# EAGLE library part COMPANDER (library integrated circuits)
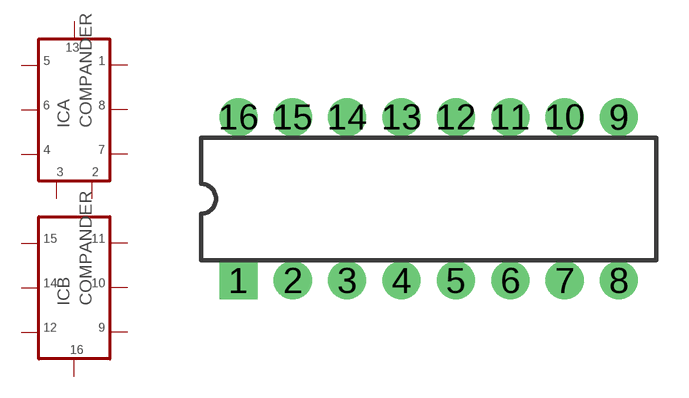
[diagram p16: symbol with the pads of DIL16; footprint DIL16]

Designator prefix IC; gates A=COMPRESSOR B=EXPANDOR

## COMPANDER  [DIL16]
1  A:1
2  A:2
3  A:3
4  A:4
5  A:5
6  A:6
7  A:7
8  A:8
9  B:9
10  B:10
11  B:11
12  B:12
13  A:13
14  B:14
15  B:15
16  B:16

## Footprint DIL16 (pad centres in mm)
Dual In Line Package
drill 1.016 pad 1.778 square: 1 -8.89,-3.81
drill 1.016 pad 1.778: 2 -6.35,-3.81; 3 -3.81,-3.81; 4 -1.27,-3.81; 5 1.27,-3.81; 6 3.81,-3.81; 7 6.35,-3.81; 8 8.89,-3.81; 9 8.89,3.81; 10 6.35,3.81; 11 3.81,3.81; 12 1.27,3.81; 13 -1.27,3.81; 14 -3.81,3.81; 15 -6.35,3.81; 16 -8.89,3.81